# Altium schematic symbol library Schemat rf.SCHLIB: 14 symbols
Pins are listed as number, name and electrical type; pins without a type are passive.

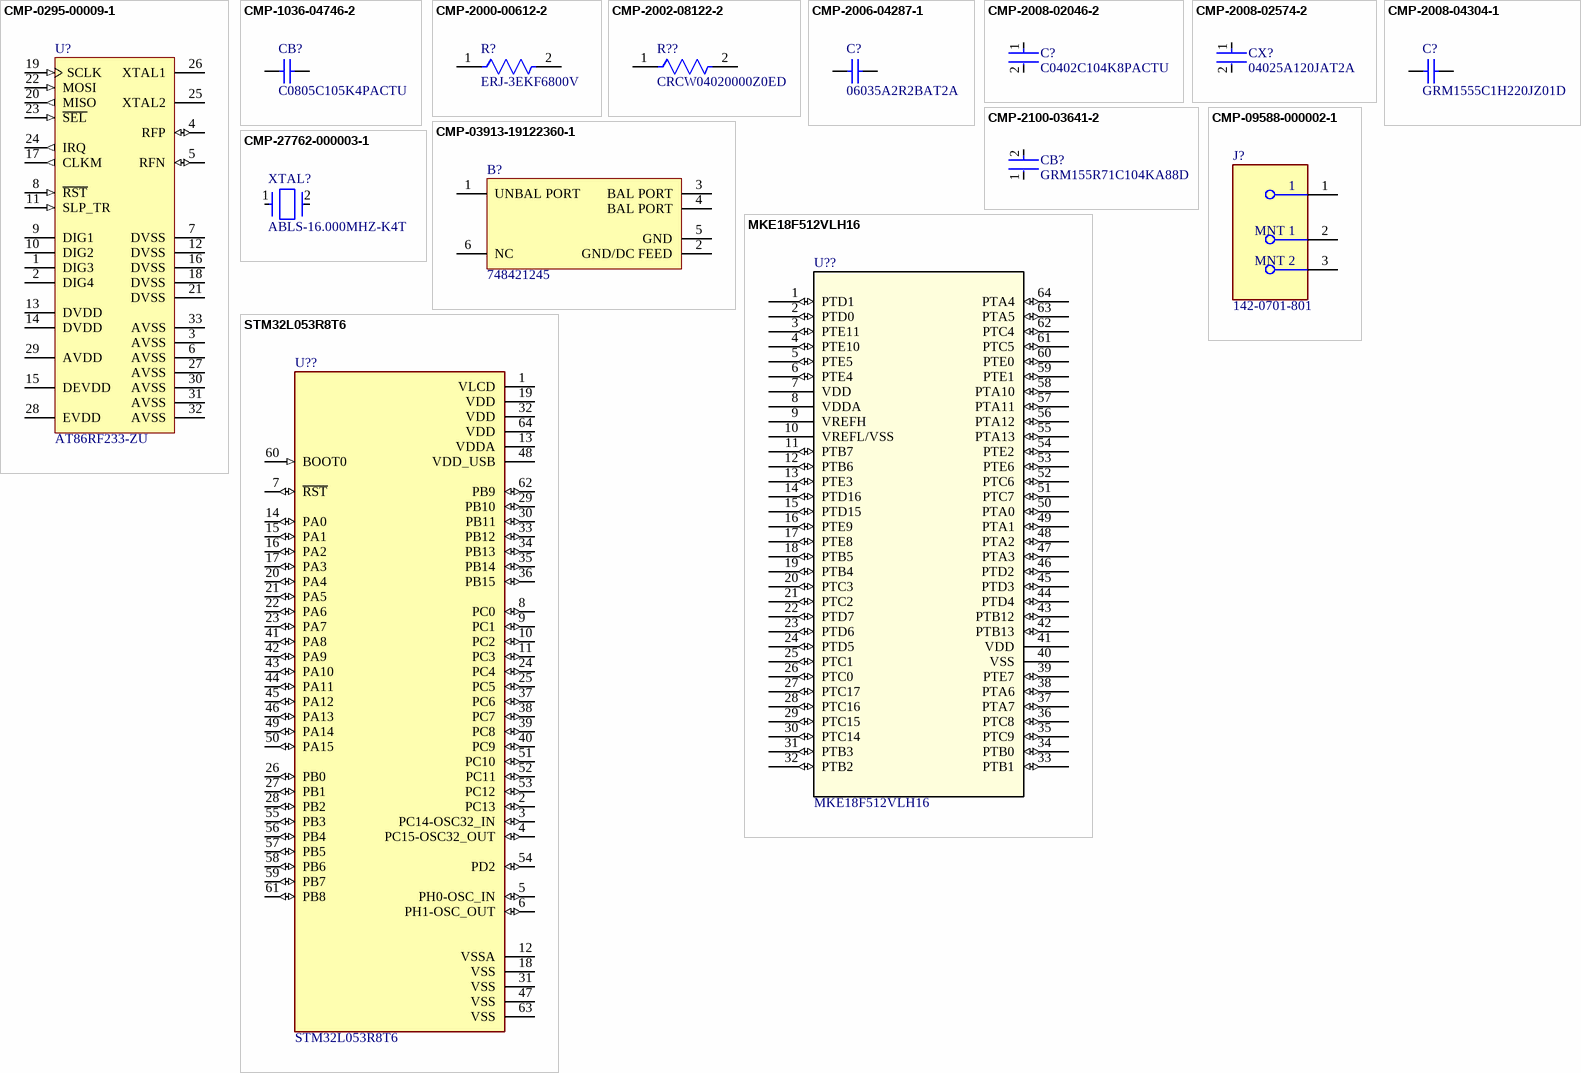
[diagram p0: symbols CMP-0295-00009-1 to STM32L053R8T6]

## CMP-0295-00009-1
designator U?, comment AT86RF233-ZU
Low Power, 2.4GHz Transceiver for ZigBee, RF4CE, IEEE 802.15.4, 6LoWPAN, and ISM Application, 1.8 to 3.6 V, -40 to 85 degC, 32-Pin VQFN (QN2), RoHS, Tray; Manufacturer: Atmel; Frequency Band: 2445 MHz Typ.; Data Rate: 2 Mb/s Max.; Power Output: 4 dBm Typ.; PackageVersion: Rev. A; ComponentLink3URL: http://www.atmel.com/Images/Atmel-8351-MCU_Wireless-AT86RF233_Datasheet.pdf; Temperature Range: -40 to 85 degC; DatasheetVersion: Rev. 8315E; ComponentLink1Description: Manufacturer URL; ComponentLink2Description: Datasheet; ComponentLink3Description: Package Specification; Mounting Technology: Surface Mount; RoHS: TRUE; ComponentLink1URL: www.atmel.com/; PartNumber: AT86RF233-ZU; ComponentLink2URL: http://www.atmel.com/Images/Atmel-8351-MCU_Wireless-AT86RF233_Datasheet.pdf; Voltage Range: 1.8 to 3.6 V; PackageDescription: 32-Pin Quad Flat Non-Leaded Package, Body 5 x 5 mm, Pitch 0.5 mm; Packing: Tray
footprint 32QN2_M (QFN, 32-Leads, Body 5x5mm, Pitch 0.5mm, Thermal Pad 3.4x3.4mm, IPC Low Density)
footprint 32QN2_L (QFN, 32-Leads, Body 5x5mm, Pitch 0.5mm, Thermal Pad 3.4x3.4mm, IPC High Density)
footprint 32QN2_N (QFN, 32-Leads, Body 5x5mm, Pitch 0.5mm, Thermal Pad 3.4x3.4mm, IPC Medium Density)
pins: 1 DIG3 "1. RX/TX Indicator,  2. If disabled, pull-down enabled (AVSS)", 2 DIG4 "1. RX/TX Indicator (DIG3 inverted),  2. If disabled, pull-down enabled (AVSS)", 3 AVSS (power) "Ground for RF signals", 4 RFP (io) "Differential RF signal", 5 RFN (io) "Differential RF signal", 6 AVSS (power) "Ground for RF signals", 7 DVSS (power) "Digital ground", 8 ~{RST} (in) "Chip reset; active low", 9 DIG1 "1. Antenna Diversity RF switch control, 2. If disabled, pull-down enabled (DVSS)", 10 DIG2 "1. Antenna Diversity RF switch control (DIG1 inverted), 2. RX Frame Time Stamping,3. TX Frame Time Stamping, 4. If functions disabled, pull-down enabled (DVSS)", 11 SLP_TR (in) "Controls sleep, deep sleep, transmit start, receive states; active high", 12 DVSS (power) "Digital ground", 13 DVDD (power) "Regulated 1.8V voltage regulator output or regulated voltage input; digital domain", 14 DVDD (power) "Regulated 1.8V voltage regulator output or regulated voltage input; digital domain", 15 DEVDD (power) "External supply voltage; digital domain", 16 DVSS (power) "Digital ground", 17 CLKM (out) "Master clock signal output; low if disabled", 18 DVSS (power) "Digital ground", 19 SCLK (in) "SPI clock", 20 MISO (out) "SPI data output (master input slave output)", 21 DVSS (power) "Digital ground", 22 MOSI (in) "SPI data input (master output slave input)", 23 ~{SEL} (in) "SPI select, active low", 24 IRQ (out) "1. Interrupt request signal; active high or active low; configurable,2. Frame Buffer Empty Indicator; active high", 25 XTAL2 "Crystal pin", 26 XTAL1 "Crystal pin or external clock supply", 27 AVSS (power) "Analog ground", 28 EVDD (power) "External supply voltage, analog domain", 29 AVDD (power) "Regulated 1.8V voltage regulator; analog domain", 30 AVSS (power) "Analog ground", 31 AVSS (power) "Analog ground", 32 AVSS (power) "Analog ground", 33 AVSS (power) "Analog ground; Exposed paddle of QFN package"

## CMP-1036-04746-2
designator CB?, comment C0805C105K4PACTU
Manufacturer: Kemet; Part Number: C0805C105K4PACTU
footprint CAPC2013X145X50LL20T25 (Chip Capacitor, 2-Leads, Body 2.00x1.25mm, IPC High Density)
footprint CAPC2013X145X50NL20T25 (Chip Capacitor, 2-Leads, Body 2.00x1.25mm, IPC Medium Density)
footprint CAPC2013X145X50ML20T25 (Chip Capacitor, 2-Leads, Body 2.00x1.25mm, IPC Low Density)
pins: 1, 2
1 alternate drawing of the same symbol

## CMP-2000-00612-2
designator R?, comment ERJ-3EKF6800V
RES SMD 680 OHM 1% 1/10W 0603; Power Rating: 100mW; Temperature Coefficient: 100ppm/°C; Voltage Rating: 75V; Resistance: 680R; Depth: 0.8mm; Tolerance: 1%; Construction: Rectangular; Resistor Type: Thick Film; Max Operating Temperature: 155°C; Features: Automotive AEC-Q200; Case Code (Metric): 1608; Max Power Dissipation: 100mW; Resistance Tolerance: 1%; Number of Pins: 2; Number of Terminations: 2; Termination: SMD/SMT; Mount: Surface Mount; RoHS Compliant: Yes; Packaging: Tape and Reel; Lead Free: Lead Free; Case/Package: 0603; Length: 1.6mm; Military Standard: Not; Min Operating Temperature: -55°C; Height: 0.022inch; Contact Plating: Tin; Case Code (Imperial): 0603; Radiation Hardening: No; Series: ERJ; Width: 0.031inch; Package Quantity: 1; REACH SVHC: No SVHC; Voltage Rating (DC): 75V
footprint FP-ERJ3EK-IPC_A
footprint FP-ERJ3EK-IPC_C
footprint FP-ERJ3EK-IPC_B
footprint FP-ERJ3EK-MFG
pins: 1, 2

## CMP-2002-08122-2
designator R??, comment CRCW04020000Z0ED
RES Thick Film, 0Ω, 0.063W, 0402; Tolerance: 5%; Max Power Dissipation: 63mW; Voltage Rating: 50V; Temperature Coefficient: 100ppm/°C; Resistance: 0mR; Contact Plating: Tin; Height: 0.35mm; Radiation Hardening: No; Features: Automotive AEC-Q200; Composition: Thick Film; Width: 0.5mm; Weight: 2.3E-05oz; Termination: SMD/SMT; Packaging: Tape and Reel; Mount: Surface Mount; Case Code (Metric): 1005; Military Standard: Not; Min Operating Temperature: -55°C; Number of Terminations: 2; Package Quantity: 1; Case Code (Imperial): 0402; Depth: 0.5mm; Max Operating Temperature: 155°C; Case/Package: 0402; Power Rating: 63mW; Lead Free: Lead Free; Voltage Rating (DC): 50V; Length: 1mm
footprint FP-CRCW0402-e3-IPC_C
footprint FP-CRCW0402-e3-IPC_A
footprint FP-CRCW0402-e3-MFG
footprint FP-CRCW0402-e3-IPC_B
pins: 1, 2

## CMP-2006-04287-1
designator C?, comment 06035A2R2BAT2A
Manufacturer: AVX Interconnect / Elco; Part Number: 06035A2R2BAT2A
footprint CAPC1608X90X35LL15T15 (Chip Capacitor, 2-Leads, Body 1.60x0.81mm, IPC High Density)
footprint CAPC1608X90X35ML15T15 (Chip Capacitor, 2-Leads, Body 1.60x0.81mm, IPC Low Density)
footprint CAPC1608X90X35NL15T15 (Chip Capacitor, 2-Leads, Body 1.60x0.81mm, IPC Medium Density)
pins: 1, 2
1 alternate drawing of the same symbol

## CMP-2008-02046-2
designator C?, comment C0402C104K8PACTU
CAP CER 0.1UF 10V X5R 0402; Manufacturer: Kemet; Material: Ceramic; Capacitance: 0.10 μF; Temperature Coefficient: 15%; Tolerance: 0.1; Value: 0.10 μF; Package: C0402-BB; Temperature: -55°C to +125°C; ComponentLink2Description: Datasheet; Temperature Characteristic: X5R; Device Class L1: Passive Components; Height: 0.55mm; Lead Free: Yes; ComponentLink2URL: https://content.kemet.com/datasheets/KEM_C1002_X7R_SMD.pdf; Device Class L2: Capacitors; Temperature Range Low: -55°C; Temperature Range High: +125°C; RoHS: TRUE; Octopart: https://octopart.com/c0402c104k8pactu-kemet-140039; Automotive: No; Mouser Description: Capacitor 100 nF 10 VDC 0402; Category: Cap; Voltage Rating: 10 V; Digikey Description: CAP CER 0.1UF 10V X5R 0402; Ipc Land Pattern Name: CAPC10050X50; Device Class L3: Ceramic Capacitors; Manufacturer Part Number: C0402C104K8PACTU
footprint FP-C0402-BB-MFG
footprint FP-C0402-BB-IPC_C
footprint FP-C0402-BB-IPC_B
footprint FP-C0402-BB-IPC_A
pins: 1, 2

## CMP-2008-02574-2
designator CX?, comment 04025A120JAT2A
General Purpose Ceramic Capacitor, 0402, 12pF, 5%, C0G, 30ppm/°C, 50V; Insulation Resistance: 100GR; Radiation Hardening: No; RoHS Compliant: Yes; Voltage Rating: 50V; Case Code (Imperial): 0402; Height: 0.5mm; Voltage: 50V; Voltage Rating (DC): 50V; Mount: Surface Mount; Capacitance: 12pF; Thickness: 0.022inch; Depth: 0.5mm; Max Operating Temperature: 125°C; Construction: Flat; Termination: SMD/SMT; Tolerance: 5%; Length: 1mm; Lead Free: Lead Free; Dielectric: C0G; Number of Pins: 2; Package Quantity: 1; Series: -; Temperature Coefficient: 30ppm/°C; Min Operating Temperature: -55°C; Case/Package: 0402; Packaging: Tape and Reel; Case Code (Metric): 1005; Width: 0.02inch; REACH SVHC: No SVHC
footprint FP-0402-L_1_0_1-W_0_5_0_1-IPC_B
footprint FP-0402-L_1_0_1-W_0_5_0_1-IPC_A
footprint FP-0402-L_1_0_1-W_0_5_0_1-IPC_C
footprint FP-0402-L_1_0_1-W_0_5_0_1-MFG
pins: 1, 2

## CMP-2008-04304-1
designator C?, comment GRM1555C1H220JZ01D
Manufacturer: Murata; Part Number: GRM1555C1H220JZ01D
footprint CAPC1005X55X25NL05T10 (Chip Capacitor, 2-Leads, Body 1.00x0.50mm, IPC Medium Density)
footprint CAPC1005X55X25LL05T10 (Chip Capacitor, 2-Leads, Body 1.00x0.50mm, IPC High Density)
footprint CAPC1005X55X25ML05T10 (Chip Capacitor, 2-Leads, Body 1.00x0.50mm, IPC Low Density)
pins: 1, 2
1 alternate drawing of the same symbol

## CMP-2100-03641-2
designator CB?, comment GRM155R71C104KA88D
CAP CER 0.1UF 16V X7R 0402; Manufacturer: Murata; Standoff Height: 0mm; Tolerance: 10%; Voltage Rating: 16Vdc; Capacitance: 0.10μF; Value: 0.10μF; RoHS: TRUE; Manufacturer Part Number: GRM155R71C104KA88D; Temperature Characteristic: X7R; Octopart: https://octopart.com/grm155r71c104ka88d-murata-196880; Digikey Description: CAP CER 0.1UF 16V X7R 0402; Device Class L3: Ceramic Capacitors; Height: 0.55mm; ComponentLink2Description: Datasheet; Temperature Range Low: -55°C; Ipc Land Pattern Name: CAPC10050X219; ComponentLink2URL: https://search.murata.co.jp/Ceramy/image/img/A01X/G101/ENG/GRM155R71H471KA01-01A.pdf; Device Class L1: Passive Components; Lead Free: yes; Category: Cap; Package: GRM15; Temperature: -55°C to +125°C; Device Class L2: Capacitors; Material: Ceramic; Temperature Range High: +125°C; Mouser Description: 0402 0.1 uF 16V ±10 % Tolerance X7R SMT Multilayer Ceramic Capacitor
footprint FP-GRM15-MFG
footprint FP-GRM15-IPC_C
footprint FP-GRM15-IPC_B
footprint FP-GRM15-IPC_A
pins: 1, 2

## CMP-03913-19122360-1
designator B?, comment 748421245
748421245 100O Surface Mount Chip Balun; NexarPartId: 19122360; Insertion Loss (dB): 0.54dB; Impedance: 100Ω; Frequency: 2.5GHz; Depth: 850µm; Case Code (Metric): 2012; Height: 850µm; Max Operating Temperature: 85°C; Length: 2mm; Width: 1.25mm; Termination: SMD/SMT; Case Code (Imperial): 0805; Number of Pins: 6; RoHS: Compliant; Max Switching Frequency: 2.5GHz; REACH SVHC: Unknown; Case/Package: 0805; Min Operating Temperature: -40°C; Lead Free: Lead Free; Mount: Surface Mount; Max Frequency: 2.5GHz; Packaging: Cut Tape (CT)
footprint WE-BAL_0805 (100O Surface Mount Chip Balun)
pins: 1 UNBAL PORT, 2 GND/DC FEED (power), 3 BAL PORT, 4 BAL PORT, 5 GND (power), 6 NC

## CMP-09588-000002-1
designator J?, comment 142-0701-801
CONN SMA JACK STR 50OHM EDGE MNT; Frequency: 18GHz; Operating Frequency: 0 to 18 GHz; Body Material: Brass; Impedance: 50R; Voltage Rating: 335V; Gender: Female; Body Plating: Gold; Orientation: Straight; Length: 0.44inch; Max Operating Temperature: 165°C; Package Quantity: 5; Packaging: Bulk; Series: SMA; Contact Material: Copper; Min Operating Temperature: -65°C; Depth: 25.58mm; RoHS Compliant: Yes; Case/Package: SMA; Max Frequency: 18GHz; Radiation Hardening: No; Contact Plating: Gold; Mount: Edge; Connector Type: SMA; Fastening Type: Threaded; Termination: Solder
footprint FP-142-0701-801-MFG
pins: 1, 2 MNT 1, 3 MNT 2

## CMP-27762-000003-1
designator XTAL?, comment ABLS-16.000MHZ-K4T
CRYSTAL 16.0000MHZ 18PF SMD; Manufacturer: Abracon; Frequency: 16MHz; Stability: 50ppm; Tolerance: 30ppm; Standoff Height: 0mm; Esr: 40Ω; ComponentLink2URL: https://abracon.com/Resonators/abls.pdf; Temperature Range High: +125°C; Package: ABLS; Device Class L3: Crystals; Temperature: -40°C to +125°C; Load Capacitance: 18pF; Device Class L2: Crystals / Oscillators; Mouser Description: Crystal 16MHz ±30ppm (Tol) ±50ppm (Stability) 18pF FUND 40Ohm 2-Pin HC-49/US SMD T/R; Category: Crys; ComponentLink2Description: Datasheet; Manufacturer Part Number: ABLS-16.000MHZ-K4T; Series: ABLS; Automotive: No; Octopart: https://octopart.com/abls-16.000mhz-k4t-abracon-18618626; RoHS: TRUE; Digikey Description: CRYSTAL 16.0000MHZ 18PF SMD; Temperature Range Low: -40°C; Lead Free: Yes; Height: 4.3mm; Device Class L1: Passive Components
footprint FP-ABLS-MFG
pins: 1, 2

## MKE18F512VLH16
designator U??
No Description Available; Mfr_Name: NXP; RefDes: RefDes; Type: Type
footprint LQFP64-10x10_NXP
pins: 1 PTD1 (io), 2 PTD0 (io), 3 PTE11 (io), 4 PTE10 (io), 5 PTE5 (io), 6 PTE4 (io), 7 VDD (power), 8 VDDA (power), 9 VREFH (power), 10 VREFL/VSS (power), 11 PTB7 (io), 12 PTB6 (io), 13 PTE3 (io), 14 PTD16 (io), 15 PTD15 (io), 16 PTE9 (io), 17 PTE8 (io), 18 PTB5 (io), 19 PTB4 (io), 20 PTC3 (io), 21 PTC2 (io), 22 PTD7 (io), 23 PTD6 (io), 24 PTD5 (io), 25 PTC1 (io), 26 PTC0 (io), 27 PTC17 (io), 28 PTC16 (io), 29 PTC15 (io), 30 PTC14 (io), 31 PTB3 (io), 32 PTB2 (io), 33 PTB1 (io), 34 PTB0 (io), 35 PTC9 (io), 36 PTC8 (io), 37 PTA7 (io), 38 PTA6 (io), 39 PTE7 (io), 40 VSS (power), 41 VDD (power), 42 PTB13 (io), 43 PTB12 (io), 44 PTD4 (io), 45 PTD3 (io), 46 PTD2 (io), 47 PTA3 (io), 48 PTA2 (io), 49 PTA1 (io), 50 PTA0 (io), 51 PTC7 (io), 52 PTC6 (io), 53 PTE6 (io), 54 PTE2 (io), 55 PTA13 (io), 56 PTA12 (io), 57 PTA11 (io), 58 PTA10 (io), 59 PTE1 (io), 60 PTE0 (io), 61 PTC5 (io), 62 PTC4 (io), 63 PTA5 (io), 64 PTA4 (io)

## STM32L053R8T6
designator U??
ARMÂ® CortexÂ®-M0+ STM32L0 Microcontroller IC 32-Bit Single-Core 32MHz 64KB (64K x 8) FLASH 64-LQFP (10x10); MF: STMicroelectronics; SnapEDA_Link: https://www.snapeda.com/parts/STM32L053R8T6/STMicroelectronics/view-part/?ref=snap; Package: LQFP-64 STMicroelectronics; Value: *; MP: STM32L053R8T6; Check_prices: https://www.snapeda.com/parts/STM32L053R8T6/STMicroelectronics/view-part/?ref=eda
footprint QFP50P1200X1200X160-64N
pins: 1 VLCD (power), 2 PC13 (io), 3 PC14-OSC32_IN (io), 4 PC15-OSC32_OUT (io), 5 PH0-OSC_IN (io), 6 PH1-OSC_OUT (io), 7 ~{RST} (io), 8 PC0 (io), 9 PC1 (io), 10 PC2 (io), 11 PC3 (io), 12 VSSA (power), 13 VDDA (power), 14 PA0 (io), 15 PA1 (io), 16 PA2 (io), 17 PA3 (io), 18 VSS (power), 19 VDD (power), 20 PA4 (io), 21 PA5 (io), 22 PA6 (io), 23 PA7 (io), 24 PC4 (io), 25 PC5 (io), 26 PB0 (io), 27 PB1 (io), 28 PB2 (io), 29 PB10 (io), 30 PB11 (io), 31 VSS (power), 32 VDD (power), 33 PB12 (io), 34 PB13 (io), 35 PB14 (io), 36 PB15 (io), 37 PC6 (io), 38 PC7 (io), 39 PC8 (io), 40 PC9 (io), 41 PA8 (io), 42 PA9 (io), 43 PA10 (io), 44 PA11 (io), 45 PA12 (io), 46 PA13 (io), 47 VSS (power), 48 VDD_USB (power), 49 PA14 (io), 50 PA15 (io), 51 PC10 (io), 52 PC11 (io), 53 PC12 (io), 54 PD2 (io), 55 PB3 (io), 56 PB4 (io), 57 PB5 (io), 58 PB6 (io), 59 PB7 (io), 60 BOOT0 (in), 61 PB8 (io), 62 PB9 (io), 63 VSS (power), 64 VDD (power)